# Altium schematic symbol library ACH32C.SchLib: 1 symbol
Pins are listed as number, name and electrical type; pins without a type are passive.

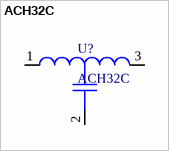
[diagram p0: symbol ACH32C]

## ACH32C
designator U?
footprint 1206-3P
pins: 1, 2, 3